# Altium schematic symbol library UZ_per_cb_upgrade.SCHLIB: 25 symbols
Pins are listed as number, name and electrical type; pins without a type are passive.

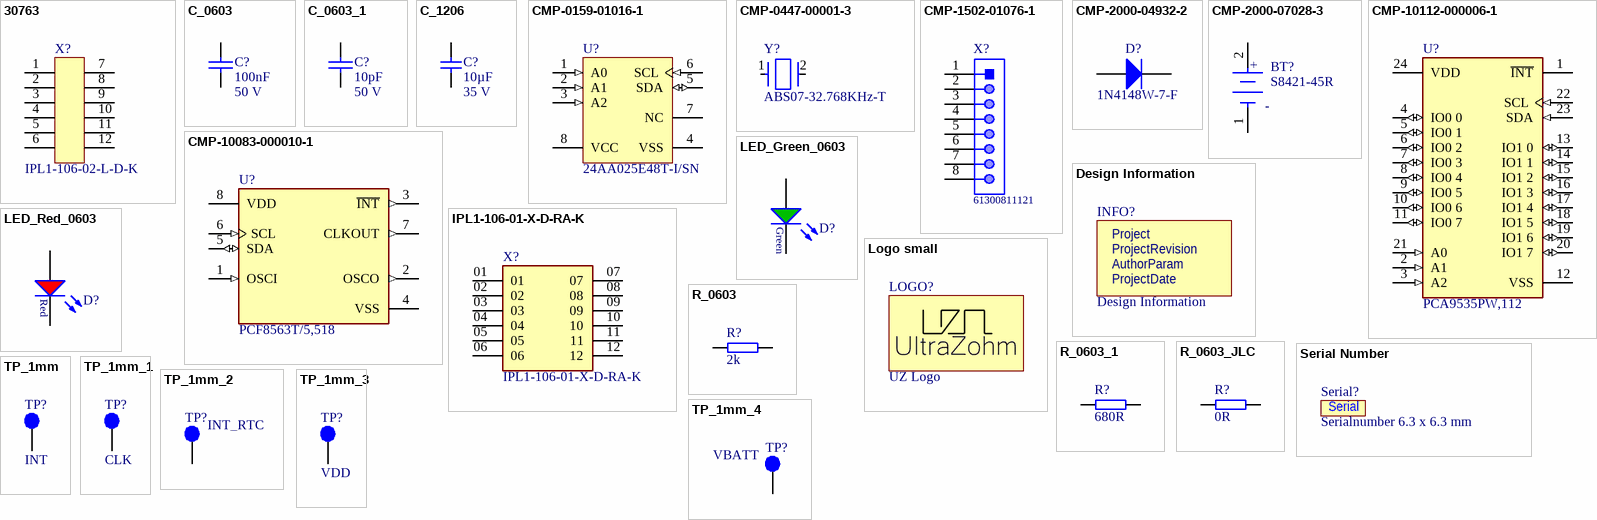
[diagram p0: symbols 30763 to TP_1mm_4]

## 30763
designator X?, comment IPL1-106-02-L-D-K
AN: 30763; Mixed: SMT; H-ART: IPL1-106-02-L-D-K-TR; Temperature-Range: -55/+125; Extra: Connector Header IPL1, 2-row 12pos, key polarization, SMT 0°; Case: IPL1; HelpURL: b:\AD\adlib\datasheet\Samtec\IPL1-SMT\
footprint IPL1-106-02-L-D-K
pins: 1, 2, 3, 4, 5, 6, 7, 8, 9, 10, 11, 12
1 alternate drawing of the same symbol

## C_0603
designator C?, comment Rated Voltage: 50 V  (hidden comment: 100nF)
CAP 0603 (1608 Metric) SMD; Tolerance: ±5%; Case-Metric: 1608; Case-EIA: 0603; Max Thickness: 1 mm; Technology: SMT; Created: 2018_09_06_AGeiger; Dielectric: *; Supplier 1: *; Supplier Part Number 1: *; MF: *; MPN: *; Value: 100nF; Package: 0603; LCSC Part #: C14663
footprint C_0603(1608)100_L (Chip Capacitor, Body 1.6x0.8mm, Height 1.0mm, IPC High Density)
pins: 1, 2
1 alternate drawing of the same symbol

## C_0603_1
designator C?, comment Rated Voltage: 50 V  (hidden comment: 10pF)
CAP 0603 (1608 Metric) SMD; Tolerance: ±5%; Case-Metric: 1608; Case-EIA: 0603; Max Thickness: 1 mm; Technology: SMT; Created: 2018_09_06_AGeiger; Dielectric: *; Supplier 1: *; Supplier Part Number 1: *; MF: *; MPN: *; Value: 10pF; Package: 0603; LCSC Part #: C1634
footprint C_0603(1608)100_L (Chip Capacitor, Body 1.6x0.8mm, Height 1.0mm, IPC High Density)
pins: 1, 2
1 alternate drawing of the same symbol

## C_1206
designator C?, comment 10µF  Voltage: 35 V
Capacitor 1206; MPN: GMK316BJ106KL-T; Tolerance: 10%; MF: Taiyo Yuden; Dielectric: X5R; Package: 1206; Value: 10µF; Created: 2018_06_25_AGeiger; Supplier 1: Mouser; Supplier Part Number 1: 963-GMK316BJ106KL-T; LCSC Part #: C13585
footprint C_1206
pins: 1, 2

## CMP-0159-01016-1
designator U?, comment 24AA025E48T-I/SN
2K bits I2C™ Serial EEPROM with EUI-48™ Node Identity, 1.7 to 5.5 V, 400 kHz, -40 to 85 degC, 8-pin SOIC (SN8), Tape and Reel; Manufacturer: Microchip; ComponentLink3URL: http://www.microchip.com/stellent/groups/techpub_sg/documents/packagingspec/en012702.pdf; ComponentLink2Description: Datasheet; ComponentLink4Description: Product URL; PackageReference: SOIC-SN8; ComponentLink1Description: Manufacturer URL; PartNumber: 24AA025E48T-I/SN; ComponentLink2URL: http://ww1.microchip.com/downloads/en/DeviceDoc/22124D.pdf; Mounting Technology: Surface Mount; PackageVersion: C04-057C; ComponentLink3Description: Package Specification; PackageDescription: 8-Lead Plastic Small Outline, 4.9 x 3.9 mm Body, 1.27 mm Pitch; DatasheetVersion: Rev. D; ComponentLink4URL: http://www.microchip.com/24AA025E48; ComponentLink1URL: http://www.microchip.com; Manufacturer 1: Microchip; Manufacturer Part Number 1: 24AA025E48T-I/SN
footprint MCHP-SOIC-SN8_L (SOIC, 8-Leads, Body 4.9x3.9mm, Pitch 1.27mm, IPC High Density)
footprint MCHP-SOIC-SN8_N (SOIC, 8-Leads, Body 4.9x3.9mm, Pitch 1.27mm, IPC Medium Density)
footprint MCHP-SOIC-SN8_M (SOIC, 8-Leads, Body 4.9x3.9mm, Pitch 1.27mm, IPC Low Density)
pins: 1 A0 (in) "Chip Address Input", 2 A1 (in) "Chip Address Input", 3 A2 (in) "Chip Address Input", 4 VSS (power) "Ground", 5 SDA (io) "Serial Address/Data I/O", 6 SCL (in) "Serial Clock", 7 NC "Not Connected", 8 VCC (power) "+1.7V to 5.5V Power Supply"

## CMP-0447-00001-3
designator Y?, comment ABS07-32.768KHz-T
CRYSTAL 32.7680KHZ 12.5PF SMD; Manufacturer 1: Abracon; Frequency Tolerance: 20ppm; Series Resistance: 70kR; Operating Frequency: 32.768 kHz; Number of Pins: 2; Package Quantity: 3000; Tolerance: 20ppm; Max Operating Temperature: 85°C; Width: 0.061inch; Frequency: 32.768kHz; Termination: SMD/SMT; Min Operating Temperature: -40°C; Radiation Hardening: No; Series: ABS07; Length: 3.2mm; Case/Package: CSMD; ESR (Equivalent Series Resistance): 70kR; RoHS Compliant: Yes; Load Capacitance: 12.5pF; Depth: 1.5mm; REACH SVHC: No SVHC; Height: 0.035inch; Packaging: Tape and Reel; Lead Free: Lead Free; LCSC Part #: C32346; Manufacturer Part Number 1: ABS07-32.768KHZ-T
footprint FP-ABS07-MFG
pins: 1, 2

## CMP-1502-01076-1
designator X?, comment 61300811121
THT Vertical Pin Header WR-PHD, Pitch 2.54 mm, Single Row, 8 pins; Manufacturer: Wurth Elektronik; Manufacturer 1: Wurth Electronics; Rated Current: 3A; Pin Number: 8; Working Voltage: 250VAC; Gender: Male; Contact Resistance: 20mOhm; Pitch: 2.54mm; Withstanding Voltage: 500VAC; Publisher: WurthElektronik; Operating Temperature: -40to105degC; Orientation: Vertical; Row Number: Single; Part Number: 61300811121; Package Reference: 61300811121; Mounting Technology: THT; Packaging: Bag; Manufacturer URL: http://www.we-online.de; Datasheet URL: https://katalog.we-online.de/em/datasheet/6130xx11121.pdf; Manufacturer Part Number 1: 61300811121
footprint 61300811121 (Pin Header, pitch 2.54 mm, THT, Vertical, single row, 8p)
pins: 1, 2, 3, 4, 5, 6, 7, 8

## CMP-2000-04932-2
designator D?, comment 1N4148W-7-F
Fast Switching Diode, 100 V, 0.15 A, -65 to 150 degC, 2-Pin?SOD123, RoHS, Tape and Reel; Manufacturer 1: Diodes; Recovery Time: 4ns; Brand: DiodesIncorporated; Unit Weight: 0.000353oz; Max Surge Current: 2A; Peak Reverse Voltage: 100V; Ir - Reverse Current: 1uA; Vf - Forward Voltage: 1.25V; Configuration: Single; If - Forward Current: 0.15A; Product Category: Diodes-GeneralPurpose,Power,Switching; Operating Temperature Range: -65Cto+150C; Packaging: Reel; Manufacturer URL: http://www.diodes.com/; Maximum Operating Temperature: +150C; Height: 1.25mm; Minimum Operating Temperature: -65C; Product: SwitchingDiodes; Package URL: http://www.diodes.com/datasheets/ds18004.pdf; Type: SwitchingDiode; Package Reference: SOD123-2; Width: 1.7mm; Datasheet URL: http://www.farnell.com/datasheets/1915529.pdf; Datasheet Version: Rev. 24-2, 10/2013; Series: 1N4148; Factory Pack Quantity: 3000; Length: 2.85mm; RoHS: True; Manufacturer: DiodesIncorporated; Mounting Style: SMD/SMT; Package / Case: SOD-123; LCSC Part #: C81598; Manufacturer Part Number 1: 1N4148W-7-F
footprint DIOD-SOD123-2_V (SOD123, 2-Leads, Body 2.7x1.55mm, Height 1.45mm)
pins: 1 A, 2 K

## CMP-2000-07028-3
designator BT?, comment S8421-45R
BATTERY HOLDER COIN 20MM SMD; Manufacturer 1: Harwin; Number of Cells: 1; Min Operating Temperature: -40°C; Packaging: Tape and Reel; Max Operating Temperature: 105°C; Number of Batteries: 1; Package Quantity: 500; Material: Polyphenylene; Case/Package: SMD/SMT; Mount: Surface Mount; REACH SVHC: No SVHC; Contact Plating: Bronze; Termination: SMD/SMT; LCSC Part #: C70377; Supplier 1: Mouser; Supplier Part Number 1: 855-S8421-45R; Manufacturer Part Number 1: S8421-45R
footprint FP-S8421-45R-MFG
pins: 1 C, 2 A
text: +; -

## CMP-10083-000010-1
designator U?, comment PCF8563T/5,518
IC RTC CLK/CALENDAR I2C 8-SOIC; Manufacturer: NXP; Manufacturer 1: NXP Semiconductors; Nominal Supply Current: 0.225-0.95uA; Interface: I2C,2-Wire; Min Supply Voltage: 1V; Frequency: 400kHz; Standoff Height: 0.1mm; Number Of Outputs: 1; Max Supply Voltage: 5.5V; Digikey Description: IC RTC CLK/CALENDAR I2C 8-SOIC; Height: 1.75mm; Temperature: -40°C to +85°C; Category: IC; Package: SOT96-1; Ambient Temperature Range High: +85°C; Octopart: https://octopart.com/pcf8563t%2F5%2C518-nxp+semiconductors-19647995; Footprint Url: https://www.nxp.com/docs/en/package-information/SOT96-1.pdf; ComponentLink2URL: https://www.nxp.com/docs/en/data-sheet/PCF8563.pdf; RoHS: TRUE; ComponentLink2Description: Datasheet; Lead Free: Yes; Temperature Range Low: -40°C; Ambient Temperature Range Low: -40°C; Manufacturer Part Number: PCF8563T/5,518; Device Class L3: Real Time Clocks; Temperature Range High: +85°C; Automotive: No; Device Class L2: Clock and Timing; Mouser Description: Real Time Clock Binary I2C 1-5V RTC IC; Device Class L1: Integrated Circuits (ICs); LCSC Part #: C7440; Manufacturer Part Number 1: PCF8563T/5,518
footprint FP-SOT96-1-MFG
footprint FP-SOT96-1-IPC_C
footprint FP-SOT96-1-IPC_B
footprint FP-SOT96-1-IPC_A
pins: 1 OSCI (in), 2 OSCO (out), 3 ~{INT} (out), 4 VSS (power), 5 SDA (io), 6 SCL (in), 7 CLKOUT (out), 8 VDD (power)

## CMP-10112-000006-1
designator U?, comment PCA9535PW,112
IC I/O EXPANDER I2C 16B 24TSSOP; Manufacturer: NXP Semiconductors; Min Supply Voltage: 2.3V; Interface: I2C,SMBus; Standoff Height: 0.05mm; Number Of I/Os: 16; Max Supply Voltage: 5.5V; Frequency: 0-400kHz; Nominal Supply Current: 135uA; Automotive: No; Package: SOT355-1; Device Class L2: Interface ICs; Device Class L3: I/O Expanders; Octopart: https://octopart.com/pca9535pw%2C112-nxp+semiconductors-9518143; Height: 1.1mm; Lead Free: Yes; Device Class L1: Integrated Circuits (ICs); Manufacturer Part Number: PCA9535PW,112; Ipc Land Pattern Name: SOP65P640X110-24; Temperature: -40°C to +85°C; ComponentLink2URL: https://www.nxp.com/docs/en/data-sheet/PCA9535_PCA9535C.pdf; Category: IC; Mouser Description: Interface - I/O Expanders I2C/SMBUS 16BIT GPIO; Temperature Range High: +85°C; ComponentLink2Description: Datasheet; Ambient Temperature Range High: +85°C; Temperature Range Low: -40°C; Footprint Url: https://www.nxp.com/docs/en/package-information/SOT355-1.pdf; RoHS: TRUE; Digikey Description: IC I/O EXPANDER I2C 16B 24TSSOP; Ambient Temperature Range Low: -40°C; Manufacturer 1: NXP Semiconductors; Manufacturer Part Number 1: PCA9535PW,112
footprint FP-SOT355-1-MFG
footprint FP-SOT355-1-IPC_C
footprint FP-SOT355-1-IPC_B
footprint FP-SOT355-1-IPC_A
pins: 1 ~{INT} (oc), 2 A1 (in), 3 A2 (in), 4 IO0 0 (io), 5 IO0 1 (io), 6 IO0 2 (io), 7 IO0 3 (io), 8 IO0 4 (io), 9 IO0 5 (io), 10 IO0 6 (io), 11 IO0 7 (io), 12 VSS (power), 13 IO1 0 (io), 14 IO1 1 (io), 15 IO1 2 (io), 16 IO1 3 (io), 17 IO1 4 (io), 18 IO1 5 (io), 19 IO1 6 (io), 20 IO1 7 (io), 21 A0 (in), 22 SCL (in), 23 SDA (in), 24 VDD (power)

## Design Information
designator INFO?  (no BOM)
Manufacturer: UltraZohm; Created from: MGremer; Manufacturer Part Number: Design Information; PartID: 12; Created On: 03.11.2021 09:04:23; ComponentLink1Description: https://docs.ultrazohm.com/; ComponentLink1URL: homepage; Component Type: Design Information; Last Updated: 03.11.2021 09:28:34; Supplier 1: -; Supplier Part Number 1: -; Type: Design Information; Value: Design Information; Live Cycle Status: 1
footprint Design_info
text: Project; ProjectRevision; AuthorParam; ProjectDate

## IPL1-106-01-X-D-RA-K
designator X?
Connector Header Through Hole, Right Angle 12 position 0.100 (2.54mm); MP: IPL1-106-01-L-D-RA-K; MF: Samtec; Availability: Bad; Price: None; Check_prices: https://www.snapeda.com/parts/IPL1-106-01-L-D-RA-K/Samtec%20Inc./view-part/3223018/?ref=eda; Package: None; SnapEDA_Link: https://www.snapeda.com/parts/IPL1-106-01-L-D-RA-K/Samtec%20Inc./view-part/3223018/?ref=snap; Value: *; Purchase-URL: https://pricing.snapeda.com/search/part/IPL1-106-01-L-D-RA-K/?ref=eda
footprint SAMTEC_IPL1-106-01-X-D-RA-K
pins: 01, 02, 03, 04, 05, 06, 07, 08, 09, 10, 11, 12

## LED_Green_0603
designator D?, comment 150060GS75000  (value not drawn)
WL-SMCW SMD Mono-color Chip LED Waterclear, size 0603, Green, 3.2 V, 140°; Forward Voltage: 3.2 V; Luminous Intensity: 430 mcd; Peak Wavelength: 515 nm; Dominant Wavelength: 520 nm; MF: Wuerth Elektronik; Published Date: Sep. 2017; ComponentLink1Description: Manufacturer; ComponentLink1URL: http://www.we-online.de; ComponentLink2Description: Datasheet; ComponentLink2URL: http://katalog.we-online.com/led/datasheet/150060GS75000.pdf; MPN: 150060GS75000; Size: 0603; Viewing Angle: 140°; Emitting Color: Green; Value: 150060GS75000; Package: 0603; Created: 2018_09_06_AGeiger; Supplier 1: Farnell; Supplier Part Number 1: 2322070; Supplier 2: Mouser; Supplier Part Number 2: 710-150060GS75000; Supplier 3: Digi-Key; Supplier Part Number 3: 732-4971-1-ND; LCSC Part #: C72043
footprint WL-SMCW_0603
pins: 1 K, 2 A

## LED_Red_0603
designator D?, comment 150060RS75000  (value not drawn)
WL-SMCW SMD Mono-color Chip LED Waterclear, size 0603, Red, 2 V, 140°; Forward Voltage: 2 V; Luminous Intensity: 250 mcd; Peak Wavelength: 630 nm; Dominant Wavelength: 625 nm; MF: Wuerth Elektronik; Published Date: Sep. 2017; ComponentLink1Description: Manufacturer; ComponentLink1URL: http://www.we-online.de; ComponentLink2Description: Datasheet; ComponentLink2URL: http://katalog.we-online.com/led/datasheet/150060RS75000.pdf; MPN: 150060RS75000; Size: 0603; Viewing Angle: 140°; Emitting Color: Red; Value: 150060RS75000; Package: 0603; Created: 2018_09_06_AGeiger; Supplier 1: Farnell; Supplier Part Number 1: 2322071; Supplier 2: Mouser; Supplier Part Number 2: 710-150060RS75000; Supplier 3: Digi-Key; Supplier Part Number 3: 732-4978-1-ND; LCSC Part #: C2286
footprint WL-SMCW_0603
pins: 1 K, 2 A

## Logo small
designator LOGO?, comment UZ Logo  (no BOM)
Manufacturer Part Number: Logo small; Manufacturer: UltraZohm; Created from: MGremer; Created: Jan2021_Liegmann; Value: Logo; PartID: 10; Created On: 03.11.2021 09:04:23; ComponentLink1Description: https://docs.ultrazohm.com/; ComponentLink1URL: homepage; Component Type: Logo; Last Updated: 03.11.2021 09:05:50; Supplier 1: -; Supplier Part Number 1: -; Type: Logo; Live Cycle Status: 1
footprint UZ_Logo_small

## R_0603
designator R?, comment 2k
SMD Resistor 0603; MPN: RC0603FR-072KL; Tolerance: 1%; Voltage: 75 V; Power: 100 mW; MF: Yageo; Package: 0603; Value: 2k; Created: 2018_09_06_AGeiger; Supplier 1: Mouser; Supplier Part Number 1: 603-RC0603FR-072KL; LCSC Part #: C22975
footprint R_0603_N (SMD Resistor, Body 1.6x0.8mm, IPC Medium Density)
pins: 1, 2

## R_0603_1
designator R?, comment 680R
SMD Resistor 0603; MPN: CR0603-FX-3901ELF; Tolerance: 1%; Voltage: 75V; Power: 100 mW; MF: Bourns; Package: 0603; Value: 680R; Created: 2018_09_06_AGeiger; Supplier 1: Mouser; Supplier Part Number 1: 652-CR0603-FX3901ELF; LCSC Part #: C23228
footprint R_0603_N (SMD Resistor, Body 1.6x0.8mm, IPC Medium Density)
pins: 1, 2

## R_0603_JLC
designator R?, comment 0R
SMD Resistor 0603; Tolerance: 1%; Voltage: 75V; Power: 100 mW; Package: 0603; Value: 0R; Created: 2018_09_06_AGeiger; Supplier 1: Mouser; Supplier Part Number 1: 71-CRCW06030000Z0EBC; LCSC Part #: C21189
footprint R_0603_N (SMD Resistor, Body 1.6x0.8mm, IPC Medium Density)
pins: 1, 2

## Serial Number
designator Serial?, comment Serialnumber 6.3 x 6.3 mm  (no BOM)
Serial Number; Manufacturer: UltraZohm; Value: REV; Created from: MGremer; Created: 2018_09_18_AGeiger; Manufacturer Part Number: Serial Number; PartID: 11; Created On: 03.11.2021 09:04:23; ComponentLink1Description: https://docs.ultrazohm.com/; ComponentLink1URL: homepage; Component Type: Serial Number; Last Updated: 03.11.2021 09:28:34; Supplier 1: -; Supplier Part Number 1: -; Type: Serial Number; Live Cycle Status: 1
footprint SERIAL_6.3X6.3MM
text: Serial

## TP_1mm
designator TP?, comment INT  (no BOM)
Testpoint 1mm; Created: 2018_06_25_AGeiger; Value: Testpoint 1mm
footprint TP_1mm
pins: 1

## TP_1mm_1
designator TP?, comment CLK  (no BOM)
Testpoint 1mm; Created: 2018_06_25_AGeiger; Value: Testpoint 1mm
footprint TP_1mm
pins: 1

## TP_1mm_2
designator TP?, comment INT_RTC  (no BOM)
Testpoint 1mm; Created: 2018_06_25_AGeiger; Value: Testpoint 1mm
footprint TP_1mm
pins: 1

## TP_1mm_3
designator TP?, comment VDD  (no BOM)
Testpoint 1mm; Created: 2018_06_25_AGeiger; Value: Testpoint 1mm
footprint TP_1mm
pins: 1

## TP_1mm_4
designator TP?, comment VBATT  (no BOM)
Testpoint 1mm; Created: 2018_06_25_AGeiger; Value: Testpoint 1mm
footprint TP_1mm
pins: 1